# EAGLE library part CD4047 (library my_devices)
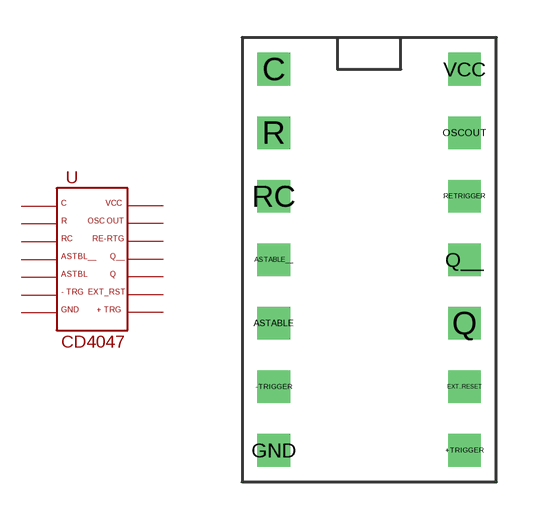
[diagram p4: symbol with the pads of CD4047; footprint CD4047]

Designator prefix U

## CD4047  [CD4047]
+TRIGGER  +TRG
-TRIGGER  -TRG
ASTABLE  AST
ASTABLE__  AST_
C  C
EXT..RESET  EXT_RESET
GND  GND  pwr
OSCOUT  OSC_OUT  out
Q  Q  out
Q__  Q_  out
R  R
RC  RC
RETRIGGER  RE_TRG
VCC  VCC  pwr

## Footprint CD4047 (pad centres in mm)
drill 0.8 square: +TRIGGER 3.81,-7.62; -TRIGGER -3.81,-5.08; ASTABLE -3.81,-2.54; ASTABLE__ -3.81,0; C -3.81,7.62; EXT..RESET 3.81,-5.08; GND -3.81,-7.62; OSCOUT 3.81,5.08; Q 3.81,-2.54; Q__ 3.81,0; R -3.81,5.08; RC -3.81,2.54; RETRIGGER 3.81,2.54; VCC 3.81,7.62